# Altium integrated library HDSP-4832.IntLib: 1 symbol
Pins are listed as number, name and electrical type; pins without a type are passive.

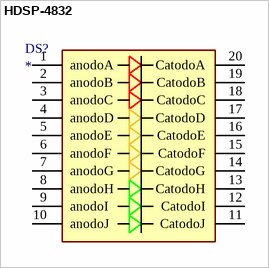
[diagram p0: symbol HDSP-4832]

## HDSP-4832
designator DS?
Display; Manufacturer_Name: Avago Technologies; Datasheet Link: http://docs.avagotech.com/docs/AV02-1798EN; Height: 6.35mm; Manufacturer_Part_Number: HDSP-4832; Mouser Part Number: 630-HDSP-4832; Mouser Price/Stock: https://www.mouser.co.uk/ProductDetail/Broadcom-Avago/HDSP-4832?qs=pQfy5%252BKCabLkjNEFwaYNQw%3D%3D
footprint HDSP-4832
pins: 1 anodoA, 2 anodoB, 3 anodoC, 4 anodoD, 5 anodoE, 6 anodoF, 7 anodoG, 8 anodoH, 9 anodoI, 10 anodoJ, 11 CatodoJ, 12 CatodoI, 13 CatodoH, 14 CatodoG, 15 CatodoF, 16 CatodoE, 17 CatodoD, 18 CatodoC, 19 CatodoB, 20 CatodoA